# Altium schematic symbol library Schlib.SchLib: 36 symbols
Pins are listed as number, name and electrical type; pins without a type are passive.

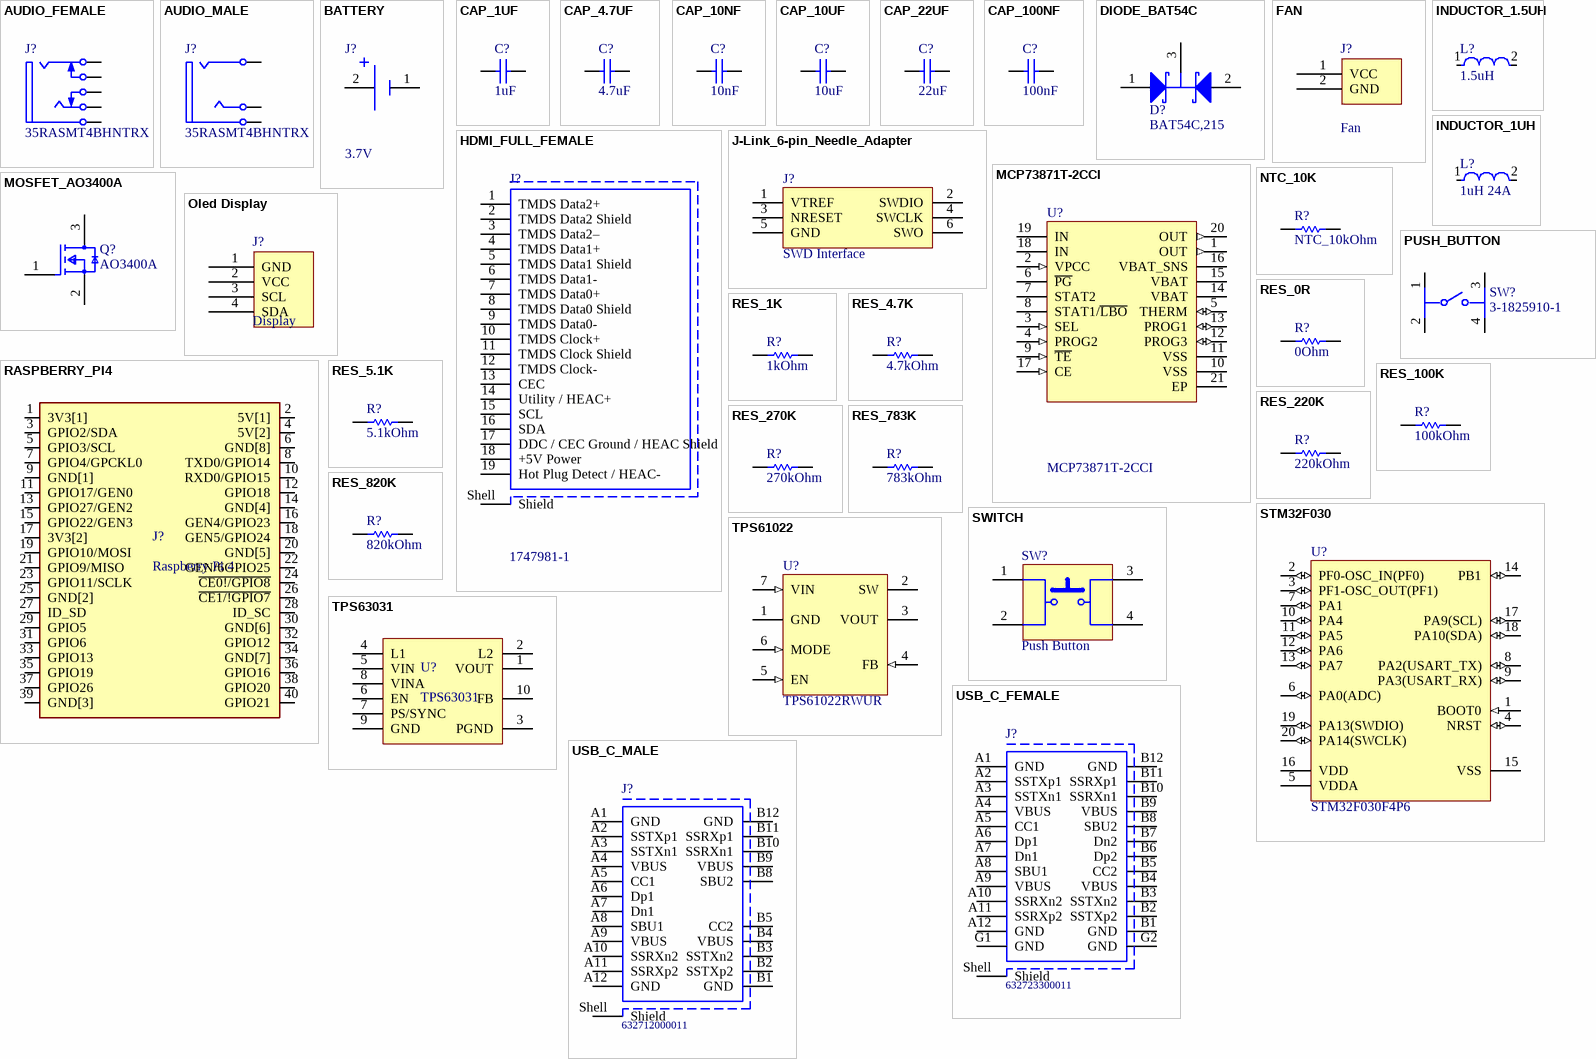
[diagram p0: symbols AUDIO_FEMALE to USB_C_MALE]

## AUDIO_FEMALE
designator J?, comment 35RASMT4BHNTRX
Female 3.5 mm Phone Jack, 5 Position, Height 5 mm, RoHS, Tape and Reel; Current Rating: 50 mA; Voltage Rating (DC): 12 V; ComponentLink1URL: http://www.switchcraft.com/; ComponentLink2Description: Datasheet; ComponentLink2URL: http://www.switchcraft.com/Drawings/35rasmt4bhntrx_cd.pdf; PackageDescription: Female 3.5 mm Phone Jack, 5 Position, Height 5 mm; PackageReference: 35RASMT4BHNTRX; Mount: Through Hole; DatasheetVersion: Rev. C, 07/2014; Contact Material: Silver; ComponentLink1Description: Manufacturer URL; Packaging: Tape and Reel; RoHSCompliant: true; Contact Plating: Silver; Package Quantity: 3000
footprint AUDIO_FEMALE
pins: 1, 2, 3, 4, 5

## AUDIO_MALE
designator J?, comment 35RASMT4BHNTRX
Female 3.5 mm Phone Jack, 5 Position, Height 5 mm, RoHS, Tape and Reel; Current Rating: 50 mA; Voltage Rating (DC): 12 V; ComponentLink1URL: http://www.switchcraft.com/; ComponentLink2Description: Datasheet; ComponentLink2URL: http://www.switchcraft.com/Drawings/35rasmt4bhntrx_cd.pdf; PackageDescription: Female 3.5 mm Phone Jack, 5 Position, Height 5 mm; PackageReference: 35RASMT4BHNTRX; Mount: Through Hole; DatasheetVersion: Rev. C, 07/2014; Contact Material: Silver; ComponentLink1Description: Manufacturer URL; Packaging: Tape and Reel; RoHSCompliant: true; Contact Plating: Silver; Package Quantity: 3000
footprint AUDIO_MALE
pins: 1, 2, 3

## BATTERY
designator J?, comment 3.7V
CONN HEADER VERT 2POS 1.25MM; Manufacturer Part Number: 53047-0210; Manufacturer: Molex; Conn Gender: Male; Voltage Rating: 125V; Description: CONNECTOR, HEADER, 2POS, 1ROW, 1.25MM; Conn Orientation: Vertical; Number Of Contacts: 2; Current Rating: 1A; Contact Material: Tin; Temperature Range Low: -40°C; ComponentLink2URL: http://www.molex.com/webdocs/datasheets/pdf/en-us/0530470210_PCB_HEADERS.pdf; Mouser Description: 1.25mm Pitch PicoBlade™ Wire-to-Board Header, Vertical, with Friction Lock, 2 Circuits; Temperature Range High: +85°C; ComponentLink2Description: Datasheet; Automotive: No; RoHS: TRUE; Ambient Temperature Range High: +85°C; Octopart: https://octopart.com/53047-0210-molex-276772; Footprint Url: https://www.molex.com/pdm_docs/sd/530470210_sd.pdf; Lead Free: Yes; Pitch: 1.25mm; Temperature: -40°C to +85°C; Device Class L2: Headers and Wire Housings; Package: 0; Ambient Temperature Range Low: -40°C; Digikey Description: CONN HEADER VERT 2POS 1.25MM; Category: Conn; Device Class L3: unset; Number Of Rows: 1; Device Class L1: Connectors; Height: 4.4mm
footprint BATTERY_CONNECTOR
pins: 1, 2

## CAP_1UF
designator C?, comment 1uF
PartNumber: 1206GC102KAT1A; Manufacturer: AVX; Capacitance: 0.001uF; Dielectric: X7R; Tolerance: 10%; Tolerance (%): ±10%; Voltage Rating DC: 2000V; Package Reference: 1206; Datasheet Version: 11/2010; Mounting Technology: SurfaceMount; Manufacturer URL: http://www.avx.com/; Datasheet URL: https://datasheet.ciiva.com/11787/0900766b80ed4c37-11787781.pdf; Package Description: 2-Pin SMD, Body 3.4 x 1.8 mm; Case Size/Dimension: 1206; Rated Voltage: 2000V
footprint CAP_0804 (Chip Capacitor, 2-Leads, Body 2.00x1.25mm, IPC Medium Density)
pins: 1, 2

## CAP_4.7UF
designator C?, comment 4.7uF
PartNumber: 1206GC102KAT1A; Manufacturer: AVX; Capacitance: 0.001uF; Dielectric: X7R; Tolerance: 10%; Tolerance (%): ±10%; Voltage Rating DC: 2000V; Package Reference: 1206; Datasheet Version: 11/2010; Mounting Technology: SurfaceMount; Manufacturer URL: http://www.avx.com/; Datasheet URL: https://datasheet.ciiva.com/11787/0900766b80ed4c37-11787781.pdf; Package Description: 2-Pin SMD, Body 3.4 x 1.8 mm; Case Size/Dimension: 1206; Rated Voltage: 2000V
footprint CAP_0804 (Chip Capacitor, 2-Leads, Body 2.00x1.25mm, IPC Medium Density)
pins: 1, 2

## CAP_10NF
designator C?, comment 10nF
PartNumber: 1206GC102KAT1A; Manufacturer: AVX; Capacitance: 0.001uF; Dielectric: X7R; Tolerance: 10%; Tolerance (%): ±10%; Voltage Rating DC: 2000V; Package Reference: 1206; Datasheet Version: 11/2010; Mounting Technology: SurfaceMount; Manufacturer URL: http://www.avx.com/; Datasheet URL: https://datasheet.ciiva.com/11787/0900766b80ed4c37-11787781.pdf; Package Description: 2-Pin SMD, Body 3.4 x 1.8 mm; Case Size/Dimension: 1206; Rated Voltage: 2000V
footprint CAP_0804 (Chip Capacitor, 2-Leads, Body 2.00x1.25mm, IPC Medium Density)
pins: 1, 2

## CAP_10UF
designator C?, comment 10uF
PartNumber: 1206GC102KAT1A; Manufacturer: AVX; Capacitance: 0.001uF; Dielectric: X7R; Tolerance: 10%; Tolerance (%): ±10%; Voltage Rating DC: 2000V; Package Reference: 1206; Datasheet Version: 11/2010; Mounting Technology: SurfaceMount; Manufacturer URL: http://www.avx.com/; Datasheet URL: https://datasheet.ciiva.com/11787/0900766b80ed4c37-11787781.pdf; Package Description: 2-Pin SMD, Body 3.4 x 1.8 mm; Case Size/Dimension: 1206; Rated Voltage: 2000V
footprint CAP_0804 (Chip Capacitor, 2-Leads, Body 2.00x1.25mm, IPC Medium Density)
pins: 1, 2

## CAP_22UF
designator C?, comment 22uF
PartNumber: 1206GC102KAT1A; Manufacturer: AVX; Capacitance: 0.001uF; Dielectric: X7R; Tolerance: 10%; Tolerance (%): ±10%; Voltage Rating DC: 2000V; Package Reference: 1206; Datasheet Version: 11/2010; Mounting Technology: SurfaceMount; Manufacturer URL: http://www.avx.com/; Datasheet URL: https://datasheet.ciiva.com/11787/0900766b80ed4c37-11787781.pdf; Package Description: 2-Pin SMD, Body 3.4 x 1.8 mm; Case Size/Dimension: 1206; Rated Voltage: 2000V
footprint CAP_0804 (Chip Capacitor, 2-Leads, Body 2.00x1.25mm, IPC Medium Density)
pins: 1, 2

## CAP_100NF
designator C?, comment 100nF
PartNumber: 1206GC102KAT1A; Manufacturer: AVX; Capacitance: 0.001uF; Dielectric: X7R; Tolerance: 10%; Tolerance (%): ±10%; Voltage Rating DC: 2000V; Package Reference: 1206; Datasheet Version: 11/2010; Mounting Technology: SurfaceMount; Manufacturer URL: http://www.avx.com/; Datasheet URL: https://datasheet.ciiva.com/11787/0900766b80ed4c37-11787781.pdf; Package Description: 2-Pin SMD, Body 3.4 x 1.8 mm; Case Size/Dimension: 1206; Rated Voltage: 2000V
footprint CAP_0804 (Chip Capacitor, 2-Leads, Body 2.00x1.25mm, IPC Medium Density)
pins: 1, 2

## DIODE_BAT54C
designator D?, comment BAT54C,215
Schottky Barrier Diode, 30 V, 3-Pin SOT23, RoHS, Tape and Reel; Manufacturer: NXP Semiconductors; Forward Surge Current Ifsm Max: 600mA; Pin Configuration: 1A1,2A2,3comK; Package Version: Feb-16; Forward Voltage VF Max: 800mV; SMD Marking: L43/*W1; Diode Case Style: SOT-23; Reverse Recovery Time trr Typ: 5ns; Forward Current If(AV): 200mA; Reel Quantity: 3000; SVHC: NoSVHC(19-Dec-2012); No. of Pins: 3; Junction Temperature Tj Max: 125degC; Common Connection: Cathode; Repetitive Reverse Voltage Vrrm Max: 30V; Operating Temperature Max: 150degC; Operating Temperature Range: -65degCto+150degC; Termination Type: SMD; Package Description: 3-Pin Small Outline Transistor, Body 1.3 x 2.9 mm, Pitch 0.95 mm; Package / Case: SOT-23; Diode Type: Schottky; Manufacturer URL: http://www.nxp.com/; Tape Width: 8mm; Package Reference: SOT23-3; Datasheet URL: https://datasheet.ciiva.com/33723/1668625-33723936.pdf; Datasheet Version: Rev. 5 , 10/2012; Operating Temperature Min: -65degC; Current Ifsm: 600mA; Reverse Recovery Time trr Max: 5ns; Package URL: http://www.nxp.com/documents/outline_drawing/SOT23.pdf; Forward Voltage: 800mV
footprint SOT23
pins: 1 A, 2 A, 3 K

## FAN
designator J?, comment Fan
Tiger Claw(TM) Socket Strip, Through-hole, Vertical, -55 to 105 degC, 2 mm Pitch, 4-Pin, Female, RoHS; Manufacturer: Samtec; PartNumber: MMS-104-01-T-SV; Pitch: 2 mm; PackageDescription: 2mm Through Hole Box Connector Strip Assembly; DatasheetVersion: F-214; ComponentLink1URL: http://www.samtec.com; RoHS: True; Temperature Range: -55 to 105 degC; ComponentLink1Description: Manufacturer URL; Mounting Technology: Through-hole; ComponentLink2Description: Datasheet; Orientation: Vertical; ComponentLink2URL: http://www.samtec.com/documents/webfiles/pdf/MMS.PDF; ComponentLink3Description: Package Specification; ComponentLink3URL: http://www.samtec.com/documents/webfiles/cpdf/MMS-1XX-01-XXX-XX-XXX-MKT1.pdf; PackageVersion: AO, 2/1993; PackageReference: MMS-104-01-X-SV
footprint FAN_CONNECTOR
pins: 1 VCC, 2 GND

## HDMI_FULL_FEMALE
designator J?, comment 1747981-1
HDMI Receptacle, Pitch 0.5 mm, 19 Position, Height 6.38 mm, RoHS, Tape and Reel; Power Rating: 100 mW; Tolerance: 1%; Resistance: 3.6 kohm; Voltage Rating: 50 V; Packaging: Tape and Reel; Max Operating Temperature: 155degC; RoHSCompliant: True; Case/Package: 0603; Mount: Surface Mount; ComponentLink2URL: http://www.te.com/commerce/DocumentDelivery/DDEController?Action=showdoc&DocId=Customer+Drawing%7F1747981%7FF5%7Fpdf%7FEnglish%7FENG_CD_1747981_F5.pdf%7F1747981-1; Length: 1.6 mm; ComponentLink2Description: Datasheet; ComponentLink1Description: Manufacturer URL; PackageReference: 1747981-1; Package Quantity: 5000; Min Operating Temperature: -55degC; ComponentLink1URL: http://www.te.com/; REACH SVHC: Unknown; Case Code (Imperial): 0603; Height: 0.45 mm; Width: 0.8 mm; DatasheetVersion: Rev. F5, 12/2015; PackageDescription: HDMI Receptacle, Pitch 0.5 mm, 19 Position, Height 6.38 mm; Case Code (Metric): 1608
footprint HDMI_FULL_FEMALE
pins: 1 TMDS Data2+, 2 TMDS Data2 Shield, 3 TMDS Data2–, 4 TMDS Data1+, 5 TMDS Data1 Shield, 6 TMDS Data1-, 7 TMDS Data0+, 8 TMDS Data0 Shield, 9 TMDS Data0-, 10 TMDS Clock+, 11 TMDS Clock Shield, 12 TMDS Clock-, 13 CEC, 14 Utility / HEAC+, 15 SCL, 16 SDA, 17 DDC / CEC Ground / HEAC Shield, 18 +5V Power, 19 Hot Plug Detect / HEAC-, Shell Shield

## INDUCTOR_1.5UH
designator L?, comment 1.5uH
FIXED IND 1.5UH 7A 4.3 MOHM SMD; Manufacturer: bourns; Manufacturer Part Number: SRU1048-1R5Y; Shielding: true; Saturation Current: 7.2A; Self Resonant Frequency: 70MHz; Q Factor: 14; Description: Ind Power Shielded Wirewound 1.5uH 30% 100KHz 14Q-Factor Ferrite 7A T/R; Test Frequency: 100kHz; Tolerance: 30%; Core Material: Ferrite; Mouser Description: Inductor Power Shielded Wirewound 1.5uH 30% 100KHz 14Q-Factor Ferrite 7A 0.0043Ohm DCR T/R; Height: 5.1mm; Digikey Description: FIXED IND 1.5UH 7A 4.3 MOHM SMD; Rms Current: 7A; Automotive: No; Package: SRU1048; Device Class L1: Passive Components; ComponentLink2Description: Datasheet; Category: Ind; Device Class L2: Inductors; Octopart: https://octopart.com/sru1048-1r5y-bourns-1020385; Temperature Range Low: -40°C; Composition: Wirewound; ComponentLink2URL: https://www.bourns.com/docs/Product-Datasheets/SRU1048.pdf; Inductance: 1.5uH; RoHS: TRUE; Lead Free: Yes; Device Class L3: Fixed Inductors; Temperature: -40°C to +125°C; Value: 1.5uH; Temperature Range High: +125°C
footprint INDUCTOR_1.5UH
pins: 1, 2

## INDUCTOR_1UH
designator L?, comment 1uH 24A
FIXED IND 1UH 24A 3.5 MOHM SMD; Manufacturer Part Number: SRP1238A-1R0M; Manufacturer: Bourns; Q Factor: 15; Self Resonant Frequency: 40MHz; Series Resistance: 3.5mΩ; Automotive Grade: Grade 0; Shielding: true; Tolerance: 20%; Saturation Current: 40A; Test Frequency: 100kHz; Core Material: Carbonyl Powder; Digikey Description: FIXED IND 1UH 24A 3.5 MOHM SMD; Device Class L1: Passive Components; Device Class L3: Fixed Inductors; Value: 1uH; Rms Current: 24A; Mouser Description: Inductor Power Shielded Wirewound 1uH 20% 100KHz 15Q-Factor Carbonyl Powder 24A 3.5mOhm DCR Automotive T/R; Automotive: Yes; Octopart: https://octopart.com/srp1238a-1r0m-bourns-47099079; Temperature Range Low: -55°C; Category: Ind; Package: SRP1238A; Device Class L2: Inductors; ComponentLink2URL: https://www.bourns.com/docs/product-datasheets/srp1238a.pdf?sfvrsn=2a7391f1_31; Temperature Range High: +150°C; ComponentLink2Description: Datasheet; Composition: Wirewound; Height: 3.5mm; Lead Free: Yes; Temperature: -55°C to +150°C; RoHS: TRUE; Inductance: 1uH
footprint INDUCTOR_1UH
pins: 1, 2

## J-Link_6-pin_Needle_Adapter
designator J?, comment SWD Interface  (no BOM)
J-Link 6-pin Needle Adapter
footprint J-Link_6-pin_Needle_Adapter
pins: 1 VTREF, 2 SWDIO, 3 NRESET, 4 SWCLK, 5 GND, 6 SWO

## MCP73871T-2CCI
designator U?
Stand-Alone System Load Sharing and Li-Ion/Li-Polymer Battery Charge Management Controller, 4.4V, 20-Pin QFN, Industrial Temperature, Tape and Reel; DatasheetVersion: revB, May-2009; PackageReference: QFN-ML20; PackageDescription: 20-Lead Plastic Quad Flat, No Lead Package (ML) - 4x4x0.9 mm Body [QFN]; PackageVersion: revBB, Aug-2009
footprint MCP73871T-2CCI (QFN, 20-Leads, Body 4x4mm, Pitch 0.5mm, Thermal Pad 2.8x2.8mm, IPC High Density)
pins: 1 OUT (out), 2 VPCC (in), 3 SEL (in), 4 PROG2 (in), 5 THERM (io), 6 ~{PG} (oc), 7 STAT2 (oc), 8 STAT1/~{LBO} (oc), 9 ~{TE} (in), 10 VSS (power), 11 VSS (power), 12 PROG3 (io), 13 PROG1 (io), 14 VBAT (power), 15 VBAT (power), 16 VBAT_SNS (power), 17 CE (in), 18 IN (power), 19 IN (power), 20 OUT (out), 21 EP (power)

## MOSFET_AO3400A
designator Q?, comment AO3400A
MOSFET N-CH 30V 5.7A SOT23; Input Capacitance: 630pF; Number of Elements: 1; Rds On Max: 26.5mR; Max Power Dissipation: 1.4W; Gate to Source Voltage (Vgs): 12V; Min Operating Temperature: -55°C; Lead Free: Lead Free; Number of Pins: 3; Drain to Source Voltage (Vdss): 30V; Case/Package: SOT-23; Mount: Surface Mount; Continuous Drain Current (ID): 5.7A; Radiation Hardening: No; Packaging: Tape and Reel; Max Operating Temperature: 150°C; Power Dissipation: 1.4W
footprint SOT23
pins: 1 G, 2 S, 3 D

## NTC_10K
designator R?, comment NTC_10kOhm
Manufacturer: Vishay Dale; Part Number: NTHS1206N02N1002JE
footprint RES_0804 (Chip Resistor, 2-Leads, Body 2.00x1.25mm, IPC Medium Density)
pins: 1, 2
1 alternate drawing of the same symbol

## Oled Display
designator J?, comment Display
Tiger Claw(TM) Socket Strip, Through-hole, Vertical, -55 to 105 degC, 2 mm Pitch, 4-Pin, Female, RoHS; Manufacturer: Samtec; PartNumber: MMS-104-01-T-SV; Pitch: 2 mm; PackageDescription: 2mm Through Hole Box Connector Strip Assembly; DatasheetVersion: F-214; ComponentLink1URL: http://www.samtec.com; RoHS: True; Temperature Range: -55 to 105 degC; ComponentLink1Description: Manufacturer URL; Mounting Technology: Through-hole; ComponentLink2Description: Datasheet; Orientation: Vertical; ComponentLink2URL: http://www.samtec.com/documents/webfiles/pdf/MMS.PDF; ComponentLink3Description: Package Specification; ComponentLink3URL: http://www.samtec.com/documents/webfiles/cpdf/MMS-1XX-01-XXX-XX-XXX-MKT1.pdf; PackageVersion: AO, 2/1993; PackageReference: MMS-104-01-X-SV
footprint OLED_DISPLAY
pins: 1 GND, 2 VCC, 3 SCL, 4 SDA

## PUSH_BUTTON
designator SW?, comment 3-1825910-1
SWITCH TACTILE SPST-NO 0.05A 24V; Manufacturer: TE Connectivity; Operating Force: 160gf; Contact Current Rating: 50mA; Description: Switch Tactile OFF (ON) SPST Round Button PC Pins 0.05A 24VDC 100000Cycles 1.57N Thru-Hole; Contact Resistance: 100mΩ; Electromechanical Life: 100000Cycles; Device Class L1: Electromechanical; ComponentLink2URL: https://www.te.com/commerce/DocumentDelivery/DDEController?Action=srchrtrv&DocNm=1825910&DocType=Customer+Drawing&DocLang=English; Category: Switch; Device Class L2: Switches; Temperature: -35°C to +85°C; RoHS: TRUE; Mount: Through Hole; Manufacturer Part Number: 3-1825910-1; Automotive: No; Lead Free: Yes; Device Class L3: Tactile Switches; ComponentLink2Description: Datasheet; Temperature Range High: +85°C; Height: 17.3mm; Package: 0; Temperature Range Low: -35°C; Throw Configuration: SPST-NO; Digikey Description: SWITCH TACTILE SPST-NO 0.05A 24V; Octopart: https://octopart.com/3-1825910-1-te+connectivity-46506874
footprint PUSH_BUTTON
pins: 1, 2, 3, 4

## RASPBERRY_PI4
designator J?, comment Raspberry Pi 4
Raspberry Pi 4 with Headers_; MP: ADA3708; Availability: Unavailable; Package: None; MF: Raspberry Pi; Value: *; Price: None; SnapEDA_Link: https://www.snapeda.com/parts/ADA3708/Raspberry%20Pi/view-part/2770118/?ref=snap
footprint RASPBERRY_PI_4 (Board-to-Board Connector, PC104 CD ISA, Stackthrough, Vertical, 2-Row, 40-Postion, Pitch 2.54mm, Receptacle)
pins: 1 3V3[1] (power), 2 5V[1] (power), 3 GPIO2/SDA (io), 4 5V[2] (power), 5 GPIO3/SCL (io), 6 GND[8] (power), 7 GPIO4/GPCKL0 (io), 8 TXD0/GPIO14 (io), 9 GND[1] (power), 10 RXD0/GPIO15 (io), 11 GPIO17/GEN0 (io), 12 GPIO18 (io), 13 GPIO27/GEN2 (io), 14 GND[4] (power), 15 GPIO22/GEN3 (io), 16 GEN4/GPIO23 (io), 17 3V3[2] (power), 18 GEN5/GPIO24 (io), 19 GPIO10/MOSI (io), 20 GND[5] (power), 21 GPIO9/MISO (io), 22 GEN/6GPIO25 (io), 23 GPIO11/SCLK (io), 24 ~{CE0!/GPIO8} (io), 25 GND[2] (power), 26 ~{CE1/!GPIO7} (io), 27 ID_SD (io), 28 ID_SC (io), 29 GPIO5 (io), 30 GND[6] (power), 31 GPIO6 (io), 32 GPIO12 (io), 33 GPIO13 (io), 34 GND[7] (power), 35 GPIO19 (io), 36 GPIO16 (io), 37 GPIO26 (io), 38 GPIO20 (io), 39 GND[3] (power), 40 GPIO21 (io)

## RES_0R
designator R?, comment 0Ohm
Part Number: CRCW120647K0FKEA; Manufacturer: Vishay Dale
footprint RES_0804 (Chip Resistor, 2-Leads, Body 2.00x1.25mm, IPC Medium Density)
pins: 1, 2
1 alternate drawing of the same symbol

## RES_1K
designator R?, comment 1kOhm
Part Number: CRCW120647K0FKEA; Manufacturer: Vishay Dale
footprint RES_0804 (Chip Resistor, 2-Leads, Body 2.00x1.25mm, IPC Medium Density)
pins: 1, 2
1 alternate drawing of the same symbol

## RES_4.7K
designator R?, comment 4.7kOhm
Part Number: CRCW120647K0FKEA; Manufacturer: Vishay Dale
footprint RES_0804 (Chip Resistor, 2-Leads, Body 2.00x1.25mm, IPC Medium Density)
pins: 1, 2
1 alternate drawing of the same symbol

## RES_5.1K
designator R?, comment 5.1kOhm
Part Number: CRCW120647K0FKEA; Manufacturer: Vishay Dale
footprint RES_0804 (Chip Resistor, 2-Leads, Body 2.00x1.25mm, IPC Medium Density)
pins: 1, 2
1 alternate drawing of the same symbol

## RES_100K
designator R?, comment 100kOhm
Part Number: CRCW120647K0FKEA; Manufacturer: Vishay Dale
footprint RES_0804 (Chip Resistor, 2-Leads, Body 2.00x1.25mm, IPC Medium Density)
pins: 1, 2
1 alternate drawing of the same symbol

## RES_220K
designator R?, comment 220kOhm
Part Number: CRCW120647K0FKEA; Manufacturer: Vishay Dale
footprint RES_0804 (Chip Resistor, 2-Leads, Body 2.00x1.25mm, IPC Medium Density)
pins: 1, 2
1 alternate drawing of the same symbol

## RES_270K
designator R?, comment 270kOhm
Part Number: CRCW120647K0FKEA; Manufacturer: Vishay Dale
footprint RES_0804 (Chip Resistor, 2-Leads, Body 2.00x1.25mm, IPC Medium Density)
pins: 1, 2
1 alternate drawing of the same symbol

## RES_783K
designator R?, comment 783kOhm
Part Number: CRCW120647K0FKEA; Manufacturer: Vishay Dale
footprint RES_0804 (Chip Resistor, 2-Leads, Body 2.00x1.25mm, IPC Medium Density)
pins: 1, 2
1 alternate drawing of the same symbol

## RES_820K
designator R?, comment 820kOhm
Part Number: CRCW120647K0FKEA; Manufacturer: Vishay Dale
footprint RES_0804 (Chip Resistor, 2-Leads, Body 2.00x1.25mm, IPC Medium Density)
pins: 1, 2
1 alternate drawing of the same symbol

## STM32F030
designator U?, comment STM32F030F4P6
ARM Cortex-M0 32-bit MCU, 16 KB Flash, 4 KB Internal RAM, 15 I/Os, 20-pin TSSOP, -40 to 85 degC, Tube; I/Os (High Current): 15; FLASH Size (Prog) (kB): 16; Internal RAM Size (kB): 4; Supply Voltage(Vcc) min (V): 2.4; Operating Frequency(F) (Processor speed) (MHz): 48; ComponentLink2URL: http://www.st.com/st-web-ui/static/active/en/resource/technical/document/datasheet/DM00088500.pdf; Core: ARM Cortex-M0; ComponentLink2Description: Datasheet; PackageDescription: 20-Pin Thin Shrink Small Outline Package, 6.5 x 4.4 mm Body, 0.65 mm Pitch; Mounting Technology: Surface Mount; ComponentLink1URL: http://www.st.com/web/en/home.html; PackageVersion: Rev. 1, 11/2012; ComponentLink3Description: Package Specification; PartNumber: STM32F030F4P6; ComponentLink3URL: http://www.st.com/st-web-ui/static/active/en/resource/technical/document/datasheet/DM00065136.pdf; DatasheetVersion: Rev. 1; PackageReference: TSSOP20; ComponentLink1Description: Manufacturer URL; Packing: Tube
footprint STM32F030 (SOP, 20-Leads, Body 6.6x4.5mm, Pitch 0.65mm, IPC High Density)
pins: 1 BOOT0 (in) "Boot memory selection", 2 PF0-OSC_IN(PF0) (io) "PF0-OSC_IN(PF0)/OSC_IN", 3 PF1-OSC_OUT(PF1) (io) "PF1-OSC_OUT(PF1)/OSC_OUT", 4 NRST (io) "Device reset input / internal reset output (active low)", 5 VDDA (power) "Analog power supply", 6 PA0(ADC) (io) "PA0/USART1_CTS/ADC_IN0,RTC_TAMP2,WKUP1", 7 PA1 (io) "PA1/USART1_RTS,EVENTOUT/ADC_IN1", 8 PA2(USART_TX) (io) "PA2/USART1_TX/ADC_IN2", 9 PA3(USART_RX) (io) "PA3/USART1_RX/ADC_IN3", 10 PA4 (io) "PA4/SPI1_NSS,USART1_CK,TIM14_CH1/ADC_IN4", 11 PA5 (io) "PA5/SPI1_SCK/ADC_IN5", 12 PA6 (io) "PA6/SPI1_MISO,TIM3_CH1,TIM1_BKIN,TIM16_CH1,EVENTOUT/ADC_IN6", 13 PA7 (io) "PA7/SPI1_MOSI,TIM3_CH2,TIM14_CH1,TIM1_CH1N,TIM17_CH1,EVENTOUT/ADC_IN7", 14 PB1 (io) "PB1/TIM3_CH4,TIM14_CH1,TIM1_CH3N/ADC_IN9", 15 VSS (power) "Ground", 16 VDD (power) "Digital power supply", 17 PA9(SCL) (io) "PA9/USART1_TX,TIM1_CH2,I2C1_SCL", 18 PA10(SDA) (io) "PA10/USART1_RX,TIM1_CH3,TIM17_BKIN,I2C1_SDA", 19 PA13(SWDIO) (io) "PA13(SWDIO)/IR_OUT,SWDIO", 20 PA14(SWCLK) (io) "PA14(SWCLK)/USART1_TX,SWCLK"

## SWITCH
designator SW?, comment Push Button
Micro Miniature Push Button Switch FSM JSM, 50 mA, -35 to 85 degC, 4-Pin SMD, RoHS, Tape and Reel; Manufacturer: TE Connectivity; Mechanical Life: 100000Cycles; Current Rating: 50mA; Actuator Material: Polyamide; Max Voltage Rating (DC): 12V; Capacitance: 0f; Illumination Type: Illuminated; Voltage Rating (DC): 24V; Case\/Package: SMD/SMT; Operating Force: 160gf; Contact Resistance: 100mOhm; Actuator Length: 0.055inch; Switch Travel: 0.25mm; Throw Configuration: SPST; Termination: GullWing; Contact Plating: Silver; Orientation: Straight; Mounting Technology: SurfaceMount; REACH SVHC: Unknown; Electrical Life: 100000Cycles; Package Reference: FSM4JSMATR; Max Operating Temperature: 85degC; Manufacturer URL: http://www.te.com/; Package Description: 4-Pin Surface Mount Device, Body 6 x 6 mm, Pitch 4.5 mm; Datasheet Version: Rev. V, 02/2015; Packaging: TapeandReel; Min Operating Temperature: -35degC; Mount: SurfaceMount; Contact Current Rating: 50mA; Contact Material: CopperAlloy; Package Quantity: 1200; Datasheet URL: http://www.te.com/commerce/DocumentDelivery/DDEController?Action=showdoc&DocId=Customer+Drawing%7F2-1437565-7%7FV%7Fpdf%7FEnglish%7FENG_CD_2-1437565-7_V.pdf%7F4-1437565-2; RoHSCompliant: true
footprint SWITCH (SMD, 4-Leads, Body 6x6mm, Pitch 4.5mm)
pins: 1, 2, 3, 4

## TPS61022
designator U?, comment TPS61022RWUR
5V BOOST; Manufacturer: Texas Instruments; Description: Switching Regulator IC     Output; Output Type: AdjustableProgrammable; Min Supply Voltage: 0.5V; Nominal Supply Current: 27uA; Standoff Height: 0mm; Max Junction Temp: +125°C; Output Current: 8A; Output Voltage: 2.2-5.5V; Max Supply Voltage: 5.5V; Switching Frequency: 600-1000kHz; Max Duty Cycle: 97%; Number Of Outputs: 1; Height: 1mm; Temperature Range High: +125°C; ComponentLink2Description: Datasheet; RoHS: TRUE; Octopart: https://octopart.com/tps61022rwur-texas+instruments-100045592; Switching Topology: Boost; Digikey Description: POWER MANAGEMENT; Lead Free: Yes; Manufacturer Part Number: TPS61022RWUR; Device Class L3: Voltage Regulators - Switching; Automotive: No; Device Class L1: Integrated Circuits (ICs); Package: RWU0007A; Category: IC; Temperature Range Low: -40°C; Mouser Description: 8-A boost converter with 0.5-V ultra-low input voltage 7-VQFN-HR -40 to 125; ComponentLink2URL: http://www.ti.com/lit/ds/symlink/tps61022.pdf; Temperature: -40°C to +125°C; Device Class L2: Power Management ICs
footprint TPS61022
pins: 1 GND (power), 2 SW (power), 3 VOUT (power), 4 FB (in), 5 EN (in), 6 MODE (in), 7 VIN (in)

## TPS63031
designator U?
3V3 BUCK BOOST TEXAS INSTRUMENTS - TPS63031DSKT - IC, DC DC CONV, 1A, 10SON, FULL REEL; Synchronous Rectifier: Yes; Output Voltage: 3.3V; Output Current: 800mA; Min Input Voltage: 1.8V; Max Input Voltage: 5.5V; Number of Outputs: 1; Switching Frequency: 2.4MHz; Output Type: Fixed; Quiescent Current: 25uA; Min Output Voltage: 3.267V; Efficiency: 96%; Topology: Buck-Boost; Supplier 1: Digi-Key; Manufacturer: Texas Instruments; Manufacturer Part Number: TPS63031DSKT; RoHS: Yes; Description: TEXAS INSTRUMENTS - TPS63031DSKT - IC, DC DC CONV, 1A, 10SON, FULL REEL; Category: Voltage Regulators - Switching; Stock 1: 9581; Pricing 1: 1=2.15000, 10=1.93200, 25=1.82240, 100=1.45800 (USD); Mount: Surface Mount; Number of Pins: 10; Contact Plating: Gold; Min Operating Temperature: -40°C; Max Operating Temperature: 85°C; Packaging: Tape and Reel; Package Quantity: 1; Max Output Current: 800mA; Max Output Voltage: 3.3V; Nominal Output Voltage: 3.3V; Termination: SMD/SMT; Frequency: 2.4MHz; Max Supply Voltage: 5.5V; Min Supply Voltage: 1.8V; Length: 2.5mm; Height: 0.75mm; Width: 2.5mm; Radiation Hardening: No; Lead Free: Lead Free; REACH SVHC: No SVHC; ComponentLink1URL: https://datasheet.ciiva.com/2026/tps63031-2026128.pdf?src-supplier=Digi-Key; ComponentLink1Description: https://datasheet.ciiva.com/2026/tps63031-2026128.pdf?src-supplier=Digi-Key; ComponentLink2URL: https://datasheet.ciiva.com/4879/slvs696b-120507-4879760.pdf?src-supplier=Mouser; ComponentLink2Description: https://datasheet.ciiva.com/4879/slvs696b-120507-4879760.pdf?src-supplier=Mouser; ComponentLink3URL: https://datasheet.ciiva.com/22755/1781625-22755970.pdf?src-supplier=Farnell; ComponentLink3Description: https://datasheet.ciiva.com/22755/1781625-22755970.pdf?src-supplier=Farnell; ComponentLink4URL: https://datasheet.ciiva.com/15113/getdatasheetpartid-196765-15113811.pdf?src-supplier=Verical; ComponentLink4Description: https://datasheet.ciiva.com/15113/getdatasheetpartid-196765-15113811.pdf?src-supplier=Verical; ComponentLink5URL: https://datasheet.ciiva.com/41462/001014941-da-01-en-ic-reg-buck-bst-tps63031dskt-wson-10-tid-41462787.pdf?src-supplier=Conrad; ComponentLink5Description: https://datasheet.ciiva.com/41462/001014941-da-01-en-ic-reg-buck-bst-tps63031dskt-wson-10-tid-41462787.pdf?src-supplier=Conrad; ComponentLink6URL: https://datasheet.ciiva.com/7994/1856306-7994054.pdf?src-supplier=Element14; ComponentLink6Description: https://datasheet.ciiva.com/7994/1856306-7994054.pdf?src-supplier=Element14; ComponentLink7URL: https://datasheet.ciiva.com/3221/tps63030-3221514.pdf?src-supplier=Avnet; ComponentLink7Description: https://datasheet.ciiva.com/3221/tps63030-3221514.pdf?src-supplier=Avnet; ComponentLink8URL: https://datasheet.ciiva.com/26098/tps63030-26098574.pdf?src-supplier=Avnet+Europe; ComponentLink8Description: https://datasheet.ciiva.com/26098/tps63030-26098574.pdf?src-supplier=Avnet+Europe; Supplier Part Number 1: 296-23904-1-ND
footprint TPS63031 (SON, 10-Leads, Body 3x3mm, Pitch 0.5mm, Thermal Pad 2.4x1.65mm, TI Recommended)
pins: 1 VOUT, 2 L2, 3 PGND, 4 L1, 5 VIN, 6 EN, 7 PS/SYNC, 8 VINA, 9 GND, 10 FB

## USB_C_FEMALE
designator J?, comment 632723300011
USB 3.1 Type C Receptacle WR-COM, Horizontal, SMT / THT; Manufacturer: Wurth Elektronik; Rated Current: 5A; Contact Resistance: 30mOhm; Working Voltage: 20VDC; Operating Temperature: -40to105degC; Package Reference: 632723300011; Datasheet URL: https://katalog.we-online.de/em/datasheet/632723x00011%282%29.pdf; Manufacturer URL: http://www.we-online.de; Connector Type: USB3.1TypeC; Gender: Receptacle; Part Number: 632723300011; Mounting Technology: SMT/THT; Publisher: WurthElektronik; Packaging: TapeandReel; Orientation: Horizontal
footprint USB_C_FEMALE
pins: A1 GND, A2 SSTXp1, A3 SSTXn1, A4 VBUS, A5 CC1, A6 Dp1, A7 Dn1, A8 SBU1, A9 VBUS, A10 SSRXn2, A11 SSRXp2, A12 GND, B1 GND, B2 SSTXp2, B3 SSTXn2, B4 VBUS, B5 CC2, B6 Dp2, B7 Dn2, B8 SBU2, B9 VBUS, B10 SSRXn1, B11 SSRXp1, B12 GND, G1 GND, G2 GND, Shell Shield

## USB_C_MALE
designator J?, comment 632712000011
USB 3.1 Type C Plug WR-COM, Horizontal, SMT; Manufacturer: Wurth Elektronik; Contact Resistance: 30mOhm; Rated Current: 5A; Working Voltage: 20VDC; Gender: Plug; Part Number: 632712000011; Operating Temperature: -25to105degC; Mounting Technology: SMT; Packaging: TapeandReel; Manufacturer URL: http://www.we-online.de; Datasheet URL: https://katalog.we-online.de/em/datasheet/632712000011.pdf; Connector Type: USB3.1TypeC; Orientation: Horizontal; Publisher: WurthElektronik; Package Reference: 632712000011
footprint USB_C_MALE (USB 3.1 Type C Plug Horizontal SMT)
pins: A1 GND, A2 SSTXp1, A3 SSTXn1, A4 VBUS, A5 CC1, A6 Dp1, A7 Dn1, A8 SBU1, A9 VBUS, A10 SSRXn2, A11 SSRXp2, A12 GND, B1 GND, B2 SSTXp2, B3 SSTXn2, B4 VBUS, B5 CC2, B8 SBU2, B9 VBUS, B10 SSRXn1, B11 SSRXp1, B12 GND, Shell Shield